# Altium footprint library TMC_BOB_pinheaders.PcbLib: 12 footprints
Each footprint in its own frame and in the unit in brackets; x right, y up, seen from the top. Pads: shape width x height; smd on the part's side, far side on the other; paste and mask are expansions set on the pad; w line width, h text height; cw(c..) or ccw(c..) is an arc to the next point about the centre after c.
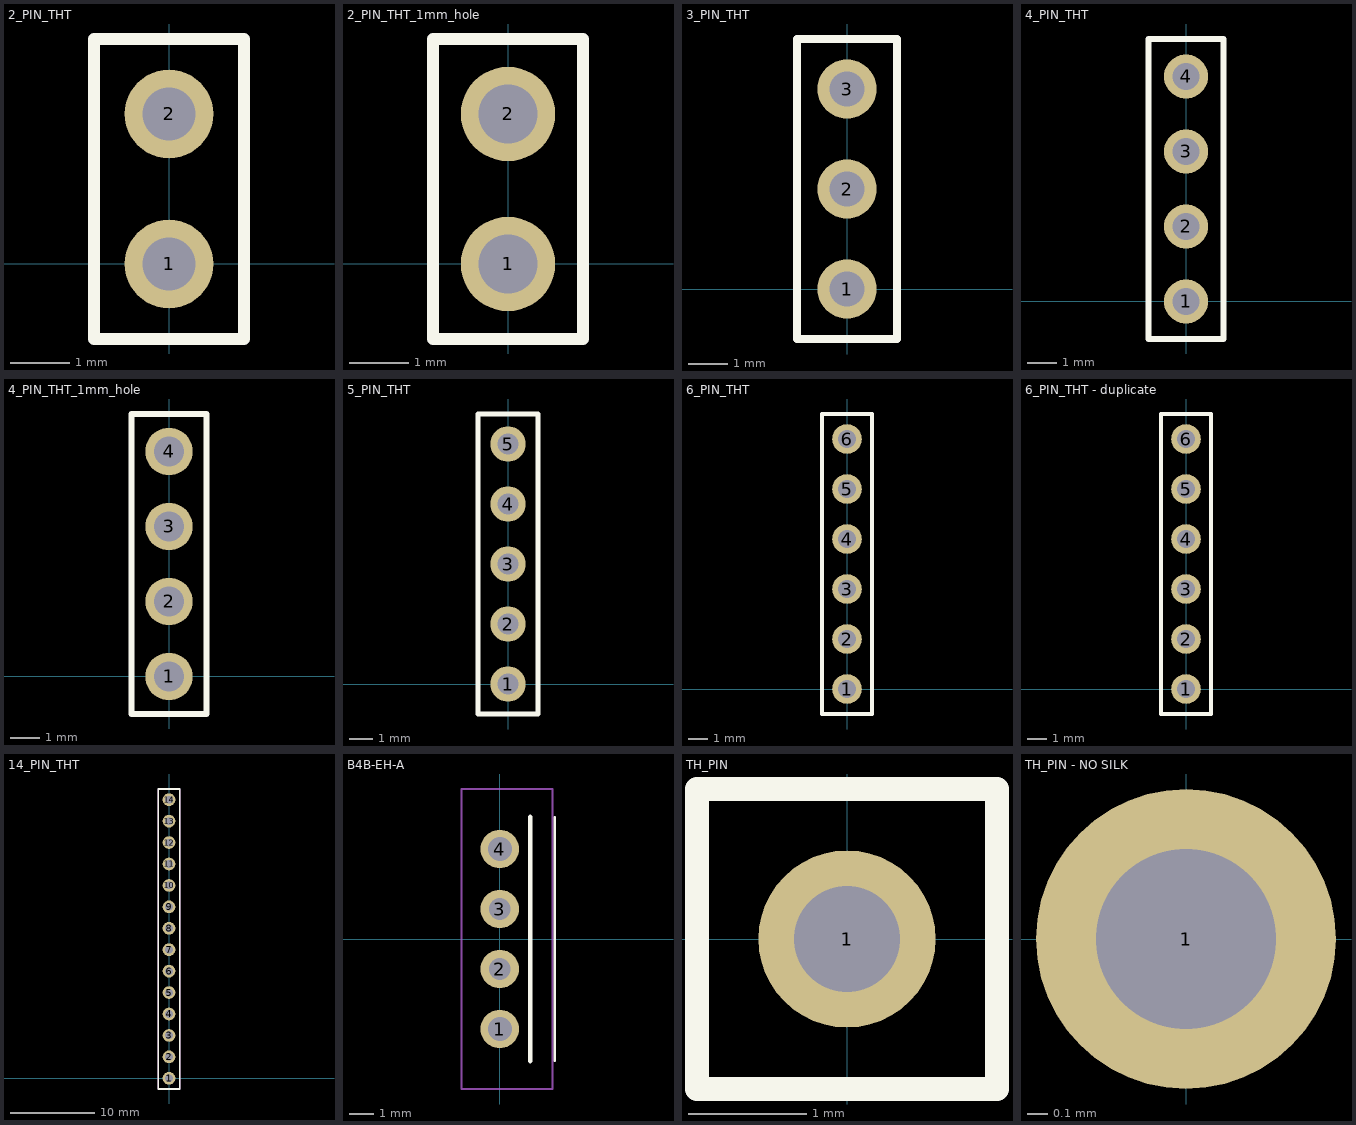
[diagram p0: the footprints below, top view; thin cyan lines are the x and y axes]

## 2_PIN_THT [mm]
pads (2):
  round 1.5 hole 0.9: 1(0,0) 2(0,2.54)
Top Overlay:
  lines w0.2: -1.27,-1.27 1.27,-1.27 1.27,3.81 -1.27,3.81 -1.27,-1.27
Bottom Overlay:
  lines w0.2: -1.27,-1.27 1.27,-1.27 1.27,3.81 -1.27,3.81 -1.27,-1.27
TopAsm:
  lines w0.051: -1.27,-1.27 1.27,-1.27 1.27,3.81 -1.27,3.81 -1.27,-1.27

## 2_PIN_THT_1mm_hole [mm]
pads (2):
  round 1.6 hole 1: 1(0,0) 2(0,2.54)
Top Overlay:
  lines w0.2: -1.27,-1.27 1.27,-1.27 1.27,3.81 -1.27,3.81 -1.27,-1.27
Bottom Overlay:
  lines w0.2: -1.27,-1.27 1.27,-1.27 1.27,3.81 -1.27,3.81 -1.27,-1.27
TopAsm:
  lines w0.051: -1.27,-1.27 1.27,-1.27 1.27,3.81 -1.27,3.81 -1.27,-1.27

## 3_PIN_THT [mm]
pads (3):
  round 1.5 hole 0.9: 1(0,0) 2(0,2.54) 3(0,5.08)
Top Overlay:
  lines w0.2: -1.27,-1.27 -1.27,6.35 1.27,6.35 1.27,-1.27 -1.27,-1.27
Bottom Overlay:
  lines w0.2: -1.27,-1.27 -1.27,6.35 1.27,6.35 1.27,-1.27 -1.27,-1.27
TopAsm:
  lines w0.051: -1.27,-1.27 1.27,-1.27 1.27,6.35 -1.27,6.35 -1.27,-1.27

## 4_PIN_THT [mm]
pads (4):
  round 1.5 hole 0.9: 1(0,0) 2(0,2.54) 3(0,5.08) 4(0,7.62)
Top Overlay:
  lines w0.2: -1.27,-1.27 -1.27,8.89 1.27,8.89 1.27,-1.27 -1.27,-1.27
Bottom Overlay:
  lines w0.2: -1.27,-1.27 1.27,-1.27 1.27,8.89 -1.27,8.89 -1.27,-1.27
TopAsm:
  lines w0.051: -1.27,-1.27 1.27,-1.27 1.27,8.89 -1.27,8.89 -1.27,-1.27

## 4_PIN_THT_1mm_hole [mm]
pads (4):
  round 1.6 hole 1: 1(0,0) 2(0,2.54) 3(0,5.08) 4(0,7.62)
Top Overlay:
  lines w0.2: -1.27,-1.27 -1.27,8.89 1.27,8.89 1.27,-1.27 -1.27,-1.27
Bottom Overlay:
  lines w0.2: -1.27,-1.27 1.27,-1.27 1.27,8.89 -1.27,8.89 -1.27,-1.27
TopAsm:
  lines w0.051: -1.27,-1.27 1.27,-1.27 1.27,8.89 -1.27,8.89 -1.27,-1.27

## 5_PIN_THT [mm]
pads (5):
  round 1.5 hole 0.9: 1(0,0) 2(0,2.54) 3(0,5.08) 4(0,7.62) 5(0,10.16)
Top Overlay:
  lines w0.2: -1.27,-1.27 1.27,-1.27 1.27,11.43 -1.27,11.43 -1.27,-1.27
Bottom Overlay:
  lines w0.2: -1.27,-1.27 1.27,-1.27 1.27,11.43 -1.27,11.43 -1.27,-1.27
TopAsm:
  lines w0.051: -1.27,-1.27 1.27,-1.27 1.27,11.43 -1.27,11.43 -1.27,-1.27

## 6_PIN_THT [mm]
pads (6):
  round 1.5 hole 0.9: 1(0,0) 2(0,2.54) 3(0,5.08) 4(0,7.62) 5(0,10.16) 6(0,12.7)
Top Overlay:
  lines w0.2: -1.27,-1.27 1.27,-1.27 1.27,13.97 -1.27,13.97 -1.27,-1.27
Bottom Overlay:
  lines w0.2: -1.27,-1.27 1.27,-1.27 1.27,13.97 -1.27,13.97 -1.27,-1.27
TopAsm:
  lines w0.051: -1.27,-1.27 -1.27,13.97 1.27,13.97 1.27,-1.27 -1.27,-1.27

## 6_PIN_THT - duplicate [mm]
pads (6):
  round 1.5 hole 0.9: 1(0,0) 2(0,2.54) 3(0,5.08) 4(0,7.62) 5(0,10.16) 6(0,12.7)
Top Overlay:
  lines w0.2: -1.27,-1.27 1.27,-1.27 1.27,13.97 -1.27,13.97 -1.27,-1.27
Bottom Overlay:
  lines w0.2: -1.27,-1.27 1.27,-1.27 1.27,13.97 -1.27,13.97 -1.27,-1.27
TopAsm:
  lines w0.051: -1.27,-1.27 -1.27,13.97 1.27,13.97 1.27,-1.27 -1.27,-1.27

## 14_PIN_THT [mm]
pads (14):
  round 1.5 hole 0.9: 1(0,0) 2(0,2.54) 3(0,5.08) 4(0,7.62) 5(0,10.16) 6(0,12.7) 7(0,15.24) 8(0,17.78) 9(0,20.32) 10(0,22.86) 11(0,25.4) 12(0,27.94) 13(0,30.48) 14(0,33.02)
Top Overlay:
  lines w0.2: -1.27,-1.27 -1.27,34.29 1.27,34.29 1.27,-1.27 -1.27,-1.27
Bottom Overlay:
  lines w0.2: -1.27,-1.27 1.27,-1.27 1.27,34.29 -1.27,34.29 -1.27,-1.27
TopAsm:
  lines w0.2: -1.27,-1.27 -1.27,13.97 -1.27,29.21 -1.27,34.29 1.27,34.29 1.27,29.21 1.27,13.97 1.27,-1.27 -1.27,-1.27

## B4B-EH-A [mm]
pads (4):
  round 1.6 hole 1: 1(0,-3.75) 4(0,3.75)
  round 1.6 hole 0.9: 2(0,-1.25) 3(0,1.25)
Top Overlay:
  lines w0.1: 2.286,-5.08 2.286,5.08
  lines w0.2: 1.27,-5.08 1.27,5.08
Bottom Overlay:
  lines w0.2: 1.27,-5.08 1.27,5.08
TopAsm:
  lines w0.051: 1.27,-5.08 1.27,5.08
  lines w0.075: -1.6,-6.25 2.2,-6.25 2.2,6.25 -1.6,6.25 -1.6,-6.25
3D body "B4B-EH-A.STEP": height 6, standoff -3.2, extent -1.6,-6.25 2.2,6.25

## TH_PIN [mm]
pads (1):
  round 1.5 hole 0.9: 1(0,0)
Top Overlay:
  lines w0.2: -1.27,-1.27 1.27,-1.27 1.27,1.27 -1.27,1.27 -1.27,-1.27
Bottom Overlay:
  lines w0.2: -1.27,-1.27 1.27,-1.27 1.27,1.27 -1.27,1.27 -1.27,-1.27
TopAsm:
  lines w0.1: -1.27,-1.27 1.27,-1.27 1.27,1.27 -1.27,1.27 -1.27,-1.27

## TH_PIN - NO SILK [mm]
pads (1):
  round 1.5 hole 0.9: 1(0,0)